# Altium footprint library SnapEDApcb.PcbLib: 1 footprints
Each footprint in its own frame and in the unit in brackets; x right, y up, seen from the top. Pads: shape width x height; smd on the part's side, far side on the other; paste and mask are expansions set on the pad; w line width, h text height; cw(c..) or ccw(c..) is an arc to the next point about the centre after c.
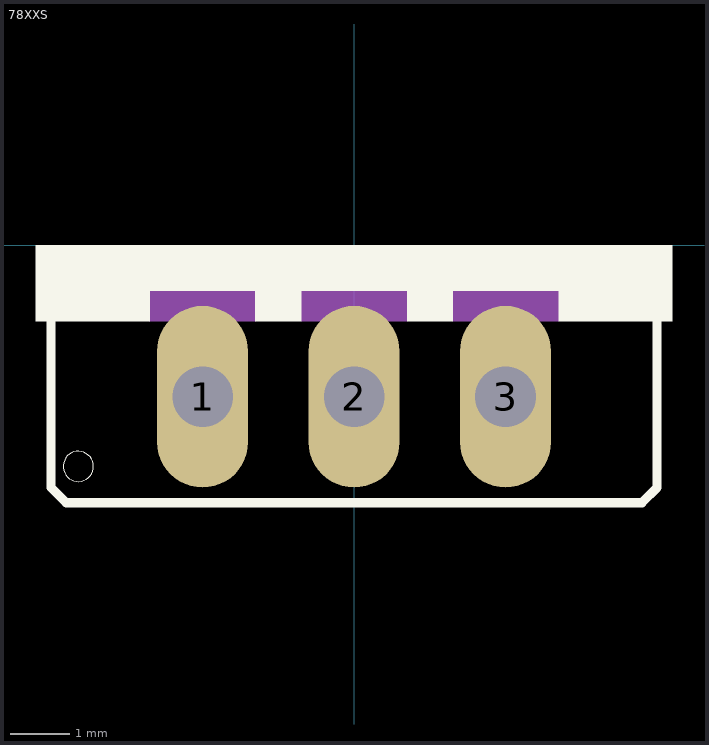
[diagram p0: the footprint, top view; thin cyan lines are the x and y axes]

## 78XXS [mil]
pads (3):
  oval 60x120 hole 40: 1(-100,-100) 2(0,-100) 3(100,-100)
Top Overlay:
  circle w0: c-182,-146 r10
  region: -135,-50.02 -210.07,-50.02 -210.07,0 -135,0
  region: -65,-30.05 -135.21,-30.05 -135.21,0 -65,0
  region: -35,-50.08 -65.11,-50.08 -65.11,0 -35,0
  region: 35,-30.05 -35.06,-30.05 -35.06,0 35,0
  region: 65,-50.02 35.02,-50.02 35.02,0 65,0
  region: 135,-30.05 65.1,-30.05 65.1,0 135,0
  region: 210,-50.06 135.16,-50.06 135.16,0 210,0
  lines w6: -200,-45 -200,-160 -190,-170 190,-170 200,-160 200,-45
Mechanical 13:
  region: -65,-50.1 -135.27,-50.1 -135.27,-30 -65,-30
  region: 35,-50.02 -35.01,-50.02 -35.01,-30 35,-30
  region: 135,-50.05 65.06,-50.05 65.06,-30 135,-30